# EAGLE library part PCA9626B,118 (library nxp)
24-bit Fm+ I2C-bus 100 mA 40 V LED driver
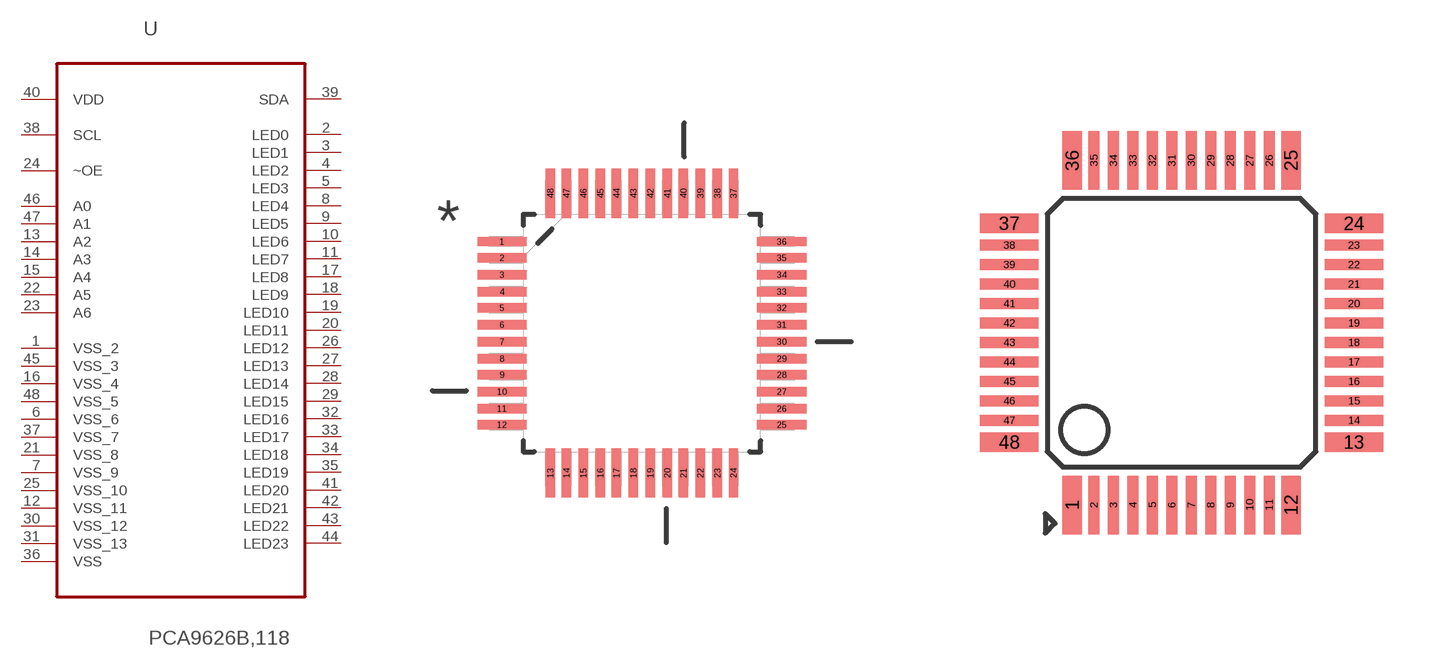
[diagram p2: symbol with the pads of QFP50P900X900X160-48N; footprints QFP50P900X900X160-48N, LQFP48]

Designator prefix U

## PCA9626B,118 (MPN: PCA9626B,118; OC_FARNELL: 1867848; OC_NEWARK: 70R6720; PACKAGE: LQFP-48; SUPPLIER: NXP)  [QFP50P900X900X160-48N]
1  VSS_2  pas
2  LED0  out
3  LED1  out
4  LED2  out
5  LED3  out
6  VSS_6  pas
7  VSS_9  pas
8  LED4  out
9  LED5  out
10  LED6  out
11  LED7  out
12  VSS_11  pas
13  A2  in
14  A3  in
15  A4  in
16  VSS_4  pas
17  LED8  out
18  LED9  out
19  LED10  out
20  LED11  out
21  VSS_8  pas
22  A5  in
23  A6  in
24  ~OE  in
25  VSS_10  pas
26  LED12  out
27  LED13  out
28  LED14  out
29  LED15  out
30  VSS_12  pas
31  VSS_13  pas
32  LED16  out
33  LED17  out
34  LED18  out
35  LED19  out
36  VSS  pas
37  VSS_7  pas
38  SCL  in
39  SDA
40  VDD  pwr
41  LED20  out
42  LED21  out
43  LED22  out
44  LED23  out
45  VSS_3  pas
46  A0  in
47  A1  in
48  VSS_5  pas

## PCA9626B,118SOT313-2  [LQFP48]
1  VSS  pas
2  LED0  out
3  LED1  out
4  LED2  out
5  LED3  out
6  VSS_2  pas
7  VSS_3  pas
8  LED4  out
9  LED5  out
10  LED6  out
11  LED7  out
12  VSS_4  pas
13  A2  in
14  A3  in
15  A4  in
16  VSS_5  pas
17  LED8  out
18  LED9  out
19  LED10  out
20  LED11  out
21  VSS_6  pas
22  A5  in
23  A6  in
24  ~OE  in
25  VSS_7  pas
26  LED12  out
27  LED13  out
28  LED14  out
29  LED15  out
30  VSS_8  pas
31  VSS_9  pas
32  LED16  out
33  LED17  out
34  LED18  out
35  LED19  out
36  VSS_10  pas
37  VSS_11  pas
38  SCL  in
39  SDA
40  VDD  pwr
41  LED20  out
42  LED21  out
43  LED22  out
44  LED23  out
45  VSS_12  pas
46  A0  in
47  A1  in
48  VSS_13  pas

## Footprint QFP50P900X900X160-48N (pad centres in mm)
smd 1.473 x 0.279: 1 -4.191,2.743; 2 -4.191,2.261; 3 -4.191,1.753; 4 -4.191,1.245; 5 -4.191,0.762; 6 -4.191,0.254; 7 -4.191,-0.254; 8 -4.191,-0.762; 9 -4.191,-1.245; 10 -4.191,-1.753; 11 -4.191,-2.261; 12 -4.191,-2.743; 25 4.191,-2.743; 26 4.191,-2.261; 27 4.191,-1.753; 28 4.191,-1.245; 29 4.191,-0.762; 30 4.191,-0.254; 31 4.191,0.254; 32 4.191,0.762; 33 4.191,1.245; 34 4.191,1.753; 35 4.191,2.261; 36 4.191,2.743
smd 0.279 x 1.473: 13 -2.743,-4.191; 14 -2.261,-4.191; 15 -1.753,-4.191; 16 -1.245,-4.191; 17 -0.762,-4.191; 18 -0.254,-4.191; 19 0.254,-4.191; 20 0.762,-4.191; 21 1.245,-4.191; 22 1.753,-4.191; 23 2.261,-4.191; 24 2.743,-4.191; 37 2.743,4.191; 38 2.261,4.191; 39 1.753,4.191; 40 1.245,4.191; 41 0.762,4.191; 42 0.254,4.191; 43 -0.254,4.191; 44 -0.762,4.191; 45 -1.245,4.191; 46 -1.753,4.191; 47 -2.261,4.191; 48 -2.743,4.191

## Footprint LQFP48 (pad centres in mm)
LQFP48: plastic low profile quad flat package 48 leads body 7 x 7 x 1.4 mm SOT313-2
smd 0.5 x 1.5: 1 -2.81,-4.425; 12 2.81,-4.425; 25 2.81,4.425; 36 -2.81,4.425
smd 0.28 x 1.5: 2 -2.25,-4.425; 3 -1.75,-4.425; 4 -1.25,-4.425; 5 -0.75,-4.425; 6 -0.25,-4.425; 7 0.25,-4.425; 8 0.75,-4.425; 9 1.25,-4.425; 10 1.75,-4.425; 11 2.25,-4.425; 26 2.25,4.425; 27 1.75,4.425; 28 1.25,4.425; 29 0.75,4.425; 30 0.25,4.425; 31 -0.25,4.425; 32 -0.75,4.425; 33 -1.25,4.425; 34 -1.75,4.425; 35 -2.25,4.425
smd 1.5 x 0.5: 13 4.425,-2.81; 24 4.425,2.81; 37 -4.425,2.81; 48 -4.425,-2.81
smd 1.5 x 0.28: 14 4.425,-2.25; 15 4.425,-1.75; 16 4.425,-1.25; 17 4.425,-0.75; 18 4.425,-0.25; 19 4.425,0.25; 20 4.425,0.75; 21 4.425,1.25; 22 4.425,1.75; 23 4.425,2.25; 38 -4.425,2.25; 39 -4.425,1.75; 40 -4.425,1.25; 41 -4.425,0.75; 42 -4.425,0.25; 43 -4.425,-0.25; 44 -4.425,-0.75; 45 -4.425,-1.25; 46 -4.425,-1.75; 47 -4.425,-2.25